# Altium footprint library Library.PcbLib: 33 footprints (part 3 of 3)
Each footprint in its own frame and in the unit in brackets; x right, y up, seen from the top. Pads: shape width x height; smd on the part's side, far side on the other; paste and mask are expansions set on the pad; w line width, h text height; cw(c..) or ccw(c..) is an arc to the next point about the centre after c.
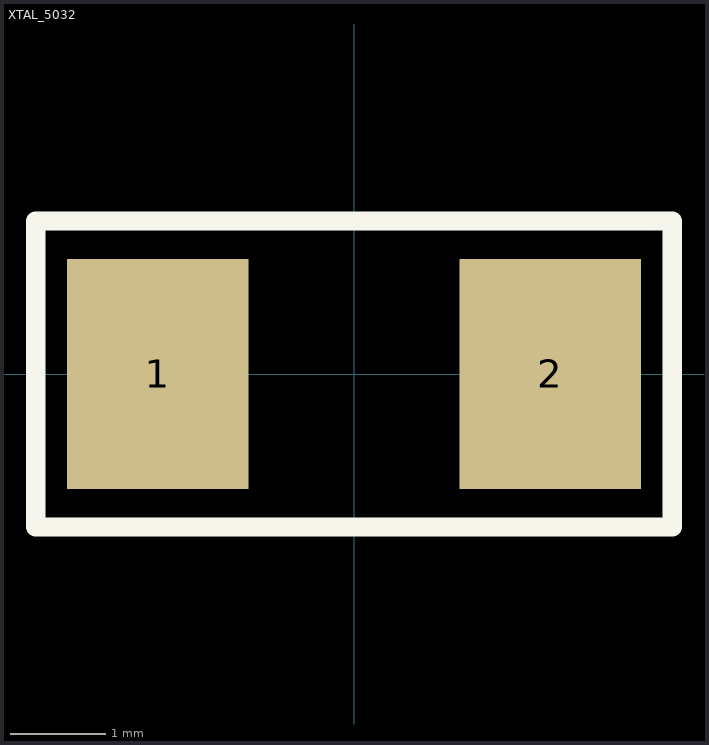
[diagram p2: the footprint, top view; thin cyan lines are the x and y axes]

## XTAL_5032 [mm] "25MHz晶振-5032"
pads (2):
  rect 1.9x2.4 smd: 1(-2.05,0) 2(2.05,0)
Top Overlay:
  lines w0.2: -3.325,-1.6 3.325,-1.6 3.325,1.6 -3.325,1.6 -3.325,-1.6
3D body: height 1, standoff 0, extent -2.54,-1.397 2.54,1.397